# Altium footprint library L50T-SSU.PcbLib: 52 footprints (part 1 of 4)
Each footprint in its own frame and in the unit in brackets; x right, y up, seen from the top. Pads: shape width x height; smd on the part's side, far side on the other; paste and mask are expansions set on the pad; w line width, h text height; cw(c..) or ccw(c..) is an arc to the next point about the centre after c.
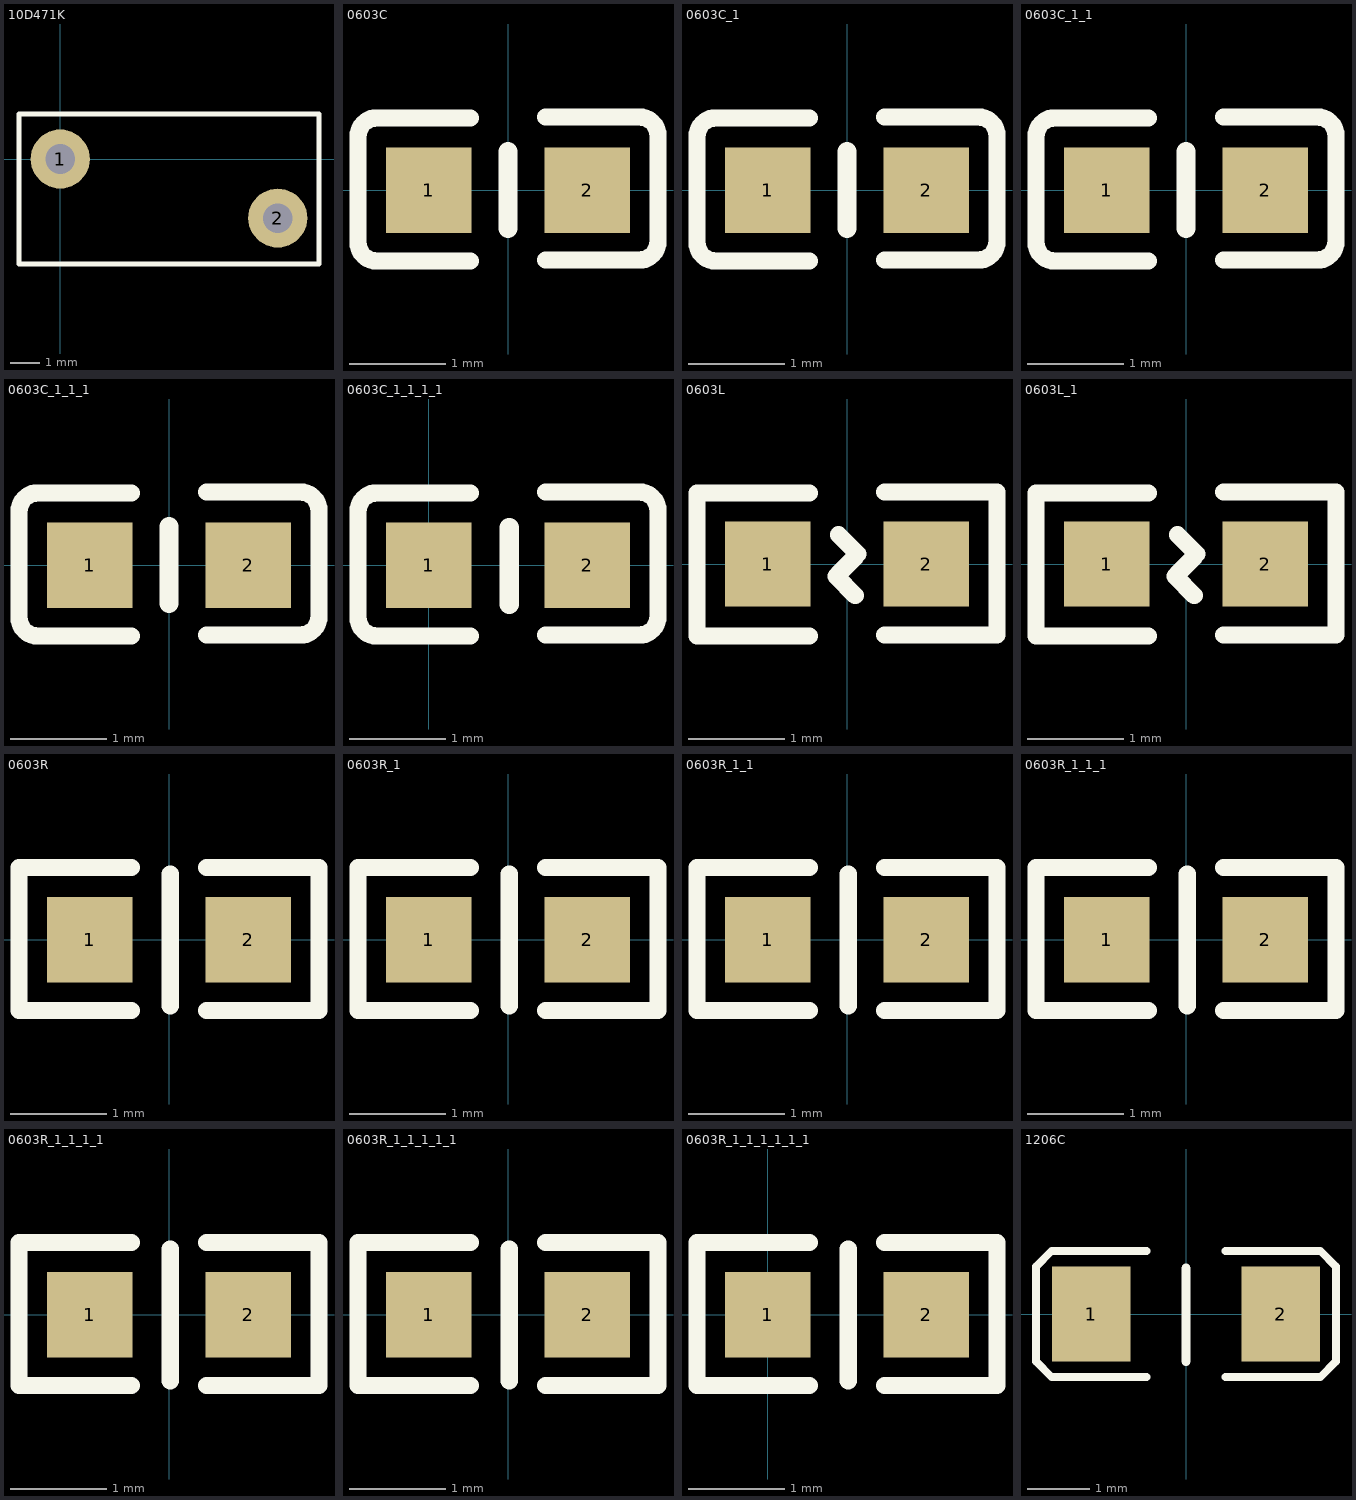
[diagram p0: the footprints below, top view; thin cyan lines are the x and y axes]

## 10D471K [mm]
pads (2):
  round 2 hole 1: 1(0,0) 2(7.366,-2)
Top Overlay:
  lines w0.18: -1.397,-3.556 8.763,-3.556 8.763,1.524 -1.397,1.524 -1.397,-3.556
3D body "User Library-S10K275.STEP": height 13, standoff -2.5, extent -2.393,-2.84 9.607,0.962

## 0603C [mil]
height 7.87
pads (2):
  rect 35x35 smd: 1(-32.5,0) 2(32.5,0)
Top Overlay:
  lines w7.09: -15.5,-29 -53.88,-29 cw(c-53.88,-21.38) -61.5,-21.38 -61.5,22 cw(c-53.88,22) -53.88,29.62 -15.5,29.62 ; 15.5,-28.62 53.88,-28.62 ccw(c53.88,-21) 61.5,-21 61.5,22.38 ccw(c53.88,22.38) 53.88,30 15.5,30
  lines w7.87: 0.01,-15.74 0.01,15.75
3D body "SW3dPS-0603 SMD Capacitor.STEP": height 11.89, standoff 0, extent -31.49,-15.74 31.5,15.75

## 0603C_1 [mil]
height 7.87
pads (2):
  rect 35x35 smd: 1(-32.5,0) 2(32.5,0)
Top Overlay:
  lines w7.09: -15.5,-29 -53.88,-29 cw(c-53.88,-21.38) -61.5,-21.38 -61.5,22 cw(c-53.88,22) -53.88,29.62 -15.5,29.62 ; 15.5,-28.62 53.88,-28.62 ccw(c53.88,-21) 61.5,-21 61.5,22.38 ccw(c53.88,22.38) 53.88,30 15.5,30
  lines w7.87: 0.01,-15.74 0.01,15.75
3D body "SW3dPS-0603 SMD Capacitor.STEP": height 11.89, standoff 0, extent -31.49,-15.74 31.5,15.75

## 0603C_1_1 [mil]
height 7.87
pads (2):
  rect 35x35 smd: 1(-32.5,0) 2(32.5,0)
Top Overlay:
  lines w7.09: -15.5,-29 -53.88,-29 cw(c-53.88,-21.38) -61.5,-21.38 -61.5,22 cw(c-53.88,22) -53.88,29.62 -15.5,29.62 ; 15.5,-28.62 53.88,-28.62 ccw(c53.88,-21) 61.5,-21 61.5,22.38 ccw(c53.88,22.38) 53.88,30 15.5,30
  lines w7.87: 0.01,-15.74 0.01,15.75
3D body "SW3dPS-0603 SMD Capacitor.STEP": height 11.89, standoff 0, extent -31.49,-15.74 31.5,15.75

## 0603C_1_1_1 [mil]
height 7.87
pads (2):
  rect 35x35 smd: 1(-32.5,0) 2(32.5,0)
Top Overlay:
  lines w7.09: -15.5,-29 -53.88,-29 cw(c-53.88,-21.38) -61.5,-21.38 -61.5,22 cw(c-53.88,22) -53.88,29.62 -15.5,29.62 ; 15.5,-28.62 53.88,-28.62 ccw(c53.88,-21) 61.5,-21 61.5,22.38 ccw(c53.88,22.38) 53.88,30 15.5,30
  lines w7.87: 0.01,-15.74 0.01,15.75
3D body "SW3dPS-0603 SMD Capacitor.STEP": height 11.89, standoff 0, extent -31.49,-15.74 31.5,15.75

## 0603C_1_1_1_1 [mil]
height 7.87
pads (2):
  rect 35x35 smd: 1(0,0) 2(65,0)
Top Overlay:
  lines w7.09: 17,-29 -21.38,-29 cw(c-21.38,-21.38) -29,-21.38 -29,22 cw(c-21.38,22) -21.38,29.62 17,29.62 ; 48,-28.62 86.38,-28.62 ccw(c86.38,-21) 94,-21 94,22.38 ccw(c86.38,22.38) 86.38,30 48,30
  lines w7.87: 33,-16 33,15.5

## 0603L [mil]
height 7.87
pads (2):
  rect 35x35 smd: 1(-32.5,0) 2(32.5,0)
Top Overlay:
  lines w7.09: -15.5,-29.5 -61.5,-29.5 -61.5,29.13 -15.5,29.13 ; -3.5,-3.75 4.37,4.13 -3.5,12 ; 3.44,-12.94 -4.44,-5.06 3.44,2.81 ; 15.5,-29.12 61.5,-29.12 61.5,29.5 15.5,29.5
3D body "User Library-FB_1608-1.STEP": height 15.75, standoff -15.75, extent -31.49,-15 31.5,16.5

## 0603L_1 [mil]
height 7.87
pads (2):
  rect 35x35 smd: 1(-32.5,0) 2(32.5,0)
Top Overlay:
  lines w7.09: -15.5,-29.5 -61.5,-29.5 -61.5,29.13 -15.5,29.13 ; -3.5,-3.75 4.37,4.13 -3.5,12 ; 3.44,-12.94 -4.44,-5.06 3.44,2.81 ; 15.5,-29.12 61.5,-29.12 61.5,29.5 15.5,29.5
3D body "User Library-FB_1608-1.STEP": height 15.75, standoff -15.75, extent -31.49,-15 31.5,16.5

## 0603R [mil]
pads (2):
  rect 35x35 smd: 1(-32.5,0) 2(32.5,0)
Top Overlay:
  lines w7.09: -15.5,-29 -61.5,-29 -61.5,29.62 -15.5,29.62 ; 0.5,-27 0.5,27 ; 15.5,-29 61.5,-29 61.5,29.62 15.5,29.62
3D body "SW3dPS-0603 SMD Resistor.STEP": height 11.89, standoff 0, extent -31.49,-15.74 31.51,15.75

## 0603R_1 [mil]
pads (2):
  rect 35x35 smd: 1(-32.5,0) 2(32.5,0)
Top Overlay:
  lines w7.09: -15.5,-29 -61.5,-29 -61.5,29.62 -15.5,29.62 ; 0.5,-27 0.5,27 ; 15.5,-29 61.5,-29 61.5,29.62 15.5,29.62
3D body "SW3dPS-0603 SMD Resistor.STEP": height 11.89, standoff 0, extent -31.49,-15.74 31.51,15.75

## 0603R_1_1 [mil]
pads (2):
  rect 35x35 smd: 1(-32.5,0) 2(32.5,0)
Top Overlay:
  lines w7.09: -15.5,-29 -61.5,-29 -61.5,29.62 -15.5,29.62 ; 0.5,-27 0.5,27 ; 15.5,-29 61.5,-29 61.5,29.62 15.5,29.62
3D body "SW3dPS-0603 SMD Resistor.STEP": height 11.89, standoff 0, extent -31.49,-15.74 31.51,15.75

## 0603R_1_1_1 [mil]
pads (2):
  rect 35x35 smd: 1(-32.5,0) 2(32.5,0)
Top Overlay:
  lines w7.09: -15.5,-29 -61.5,-29 -61.5,29.62 -15.5,29.62 ; 0.5,-27 0.5,27 ; 15.5,-29 61.5,-29 61.5,29.62 15.5,29.62
3D body "SW3dPS-0603 SMD Resistor.STEP": height 11.89, standoff 0, extent -31.49,-15.74 31.51,15.75

## 0603R_1_1_1_1 [mil]
pads (2):
  rect 35x35 smd: 1(-32.5,0) 2(32.5,0)
Top Overlay:
  lines w7.09: -15.5,-29 -61.5,-29 -61.5,29.62 -15.5,29.62 ; 0.5,-27 0.5,27 ; 15.5,-29 61.5,-29 61.5,29.62 15.5,29.62
3D body "SW3dPS-0603 SMD Resistor.STEP": height 11.89, standoff 0, extent -31.49,-15.74 31.51,15.75

## 0603R_1_1_1_1_1 [mil]
pads (2):
  rect 35x35 smd: 1(-32.5,0) 2(32.5,0)
Top Overlay:
  lines w7.09: -15.5,-29 -61.5,-29 -61.5,29.62 -15.5,29.62 ; 0.5,-27 0.5,27 ; 15.5,-29 61.5,-29 61.5,29.62 15.5,29.62
3D body "SW3dPS-0603 SMD Resistor.STEP": height 11.89, standoff 0, extent -31.49,-15.74 31.51,15.75

## 0603R_1_1_1_1_1_1 [mil]
height 7.87
pads (2):
  rect 35x35 smd: 1(0,0) 2(65,0)
Top Overlay:
  lines w7.09: 17,-29 -29,-29 -29,29.62 17,29.62 ; 33,-27 33,27 ; 48,-29 94,-29 94,29.62 48,29.62

## 1206C [mil]
pads (2):
  rect 50x60 smd: 1(-60,0) 2(60,0)
Top Overlay:
  lines w5: -25,-40 -85,-40 -95,-30 -95,30 -85,40 -25,40 ; 25,-40 85,-40 95,-30 95,30 85,40 25,40
  lines w6: 0,-30 0,29
3D body "SW3dPS-1206 SMD Capacitor.STEP": height 39.45, standoff 0, extent -62.99,-31.49 63,31.5